# Altium schematic symbol library 105-1102-001.SchLib: 1 symbol
Pins are listed as number, name and electrical type; pins without a type are passive.

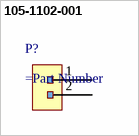
[diagram p0: symbol 105-1102-001]

## 105-1102-001
designator P?
=Description
pins: 1, 2